# Altium integrated library 2834082-1.IntLib: 1 symbol
Pins are listed as number, name and electrical type; pins without a type are passive.

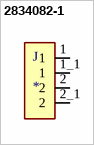
[diagram p0: symbol 2834082-1]

## 2834082-1
designator J
Conn PC Terminal Block 2 POS 5mm Solder ST Thru-Hole 20A/Contact Box/Carton; MP: 2834082-1; MF: TE Connectivity; TE_purchase_URL: https://www.te.com/usa-en/product-2834082-1.html?te_bu=Cor&te_type=disp&te_campaign=seda_glo_cor-seda-global-disp-prtnr-fy19-seda-model-bom-cta_sma-317_1&elqCampaignId=32493; Digi-Key_Part_Number: A124223-ND; Package: None; SnapEDA_Link: https://www.snapeda.com/parts/2834082-1/TE%20Connectivity%20AMP%20Connectors/view-part/2471183/?ref=snap; Value: *; Digi-Key_Purchase_URL: https://www.digikey.com/product-detail/en/te-connectivity-amp-connectors/2834082-1/A124223-ND/6012670?utm_source=snapeda&utm_medium=aggregator&utm_campaign=symbol
footprint TE_2834082-1
pins: 1, 1_1 1, 2, 2_1 2